# EAGLE library part IN-12A (library nixies-us)
IN-12A: medium numeric topview nixie tube
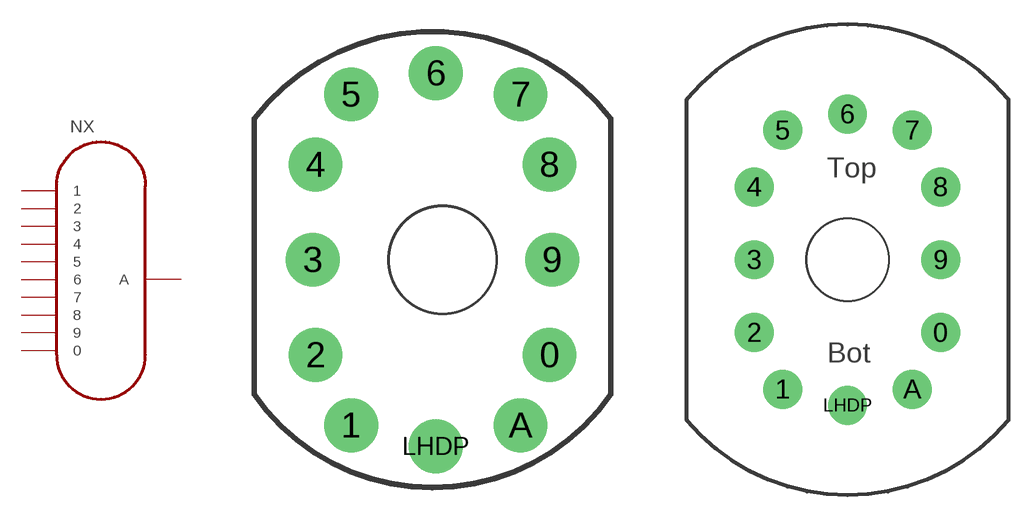
[diagram p6: symbol with the pads of IN-12; footprints IN-12, IN-12-DSUB]

Designator prefix NX

## IN-12A  [IN-12]
0  0
1  1
2  2
3  3
4  4
5  5
6  6
7  7
8  8
9  9
A  A

## IN-12AIN-12-DSUB  [IN-12-DSUB]
Pads as for IN-12

## Footprint IN-12 (pad centres in mm)
May be used with socket: SK-136
drill 1.1 pad 2.54: 0 5.048,-4.5; 1 -4.317,-7.817; 2 -6,-4.5; 3 -6.127,0; 4 -6,4.5; 5 -4.317,7.817; 6 -0.318,8.818; 7 3.683,7.817; 8 5.048,4.5; 9 5.175,0; A 3.683,-7.817; LHDP -0.318,-8.818
hole 5 at 0,0

## Footprint IN-12-DSUB (pad centres in mm)
For use with female D-SUB pins
drill 1.6: 0 5.75,-4.5; 1 -4,-8; 2 -5.75,-4.5; 3 -5.75,0; 4 -5.75,4.5; 5 -4,8; 6 0,9; 7 4,8; 8 5.75,4.5; 9 5.75,0; A 4,-8; LHDP 0,-9
hole 5 at 0,0